# Altium schematic symbol library SRP6540-150M.SchLib: 1 symbol
Pins are listed as number, name and electrical type; pins without a type are passive.

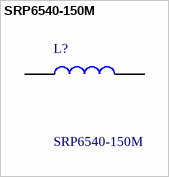
[diagram p0: symbol SRP6540-150M]

## SRP6540-150M
designator L?
Bourns SRP6540 Series Shielded Wire-wound SMD Inductor with a Iron Core, 15 uH +/-20% 2.9A Idc; Geometry.Height: 4mm; Mouser Part Number: 652-SRP6540-150M; Mouser Price/Stock: https://www.mouser.co.uk/ProductDetail/Bourns/SRP6540-150M?qs=VAD5mMsctQDbgHdK1oVsxg%3D%3D; Manufacturer_Name: Bourns; Manufacturer_Part_Number: SRP6540-150M; Datasheet Link: *
footprint INDPM7265X400N
pins: 1, 2